# Altium footprint library LARS_409_LED.PCBLIB: 6 footprints
Each footprint in its own frame and in the unit in brackets; x right, y up, seen from the top. Pads: shape width x height; smd on the part's side, far side on the other; paste and mask are expansions set on the pad; w line width, h text height; cw(c..) or ccw(c..) is an arc to the next point about the centre after c.
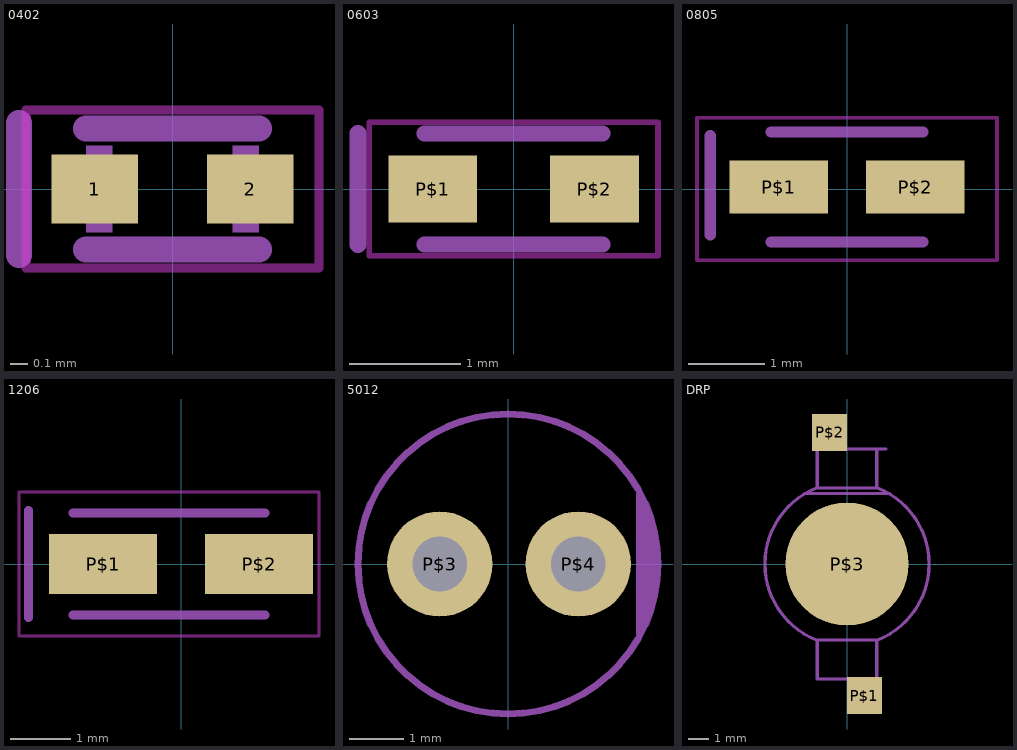
[diagram p0: the footprints below, top view; thin cyan lines are the x and y axes]

## 0402 [mm]
pads (2):
  rect 0.5x0.4 smd: 1(-0.45,0) 2(0.45,0)
Top keep-out:
  lines w0.051: -0.848,-0.458 0.848,-0.458 0.848,0.458 -0.848,0.458 -0.848,-0.458
tPlace:
  lines w0.152: -0.889,-0.381 -0.889,0.381 ; -0.5,-0.35 0.5,-0.35 ; -0.5,0.35 0.5,0.35
tGlue:
  region: -0.5,-0.25 -0.5,0.25 -0.35,0.25 -0.35,-0.25
  region: 0.35,-0.25 0.35,0.25 0.5,0.25 0.5,-0.25
3D body "User Library-led_0402.step": height 0.45, standoff 0, extent -0.505,-0.25 0.505,0.25

## 0603 [mil]
pads (2):
  rect 31.5x23.62 smd: P$1(-28.62,0) P$2(28.62,0)
Top keep-out:
  lines w1.97: -51.18,-23.62 51.18,-23.62 51.18,23.62 -51.18,23.62 -51.18,-23.62
tPlace:
  lines w5.71: -31.5,-19.69 31.5,-19.69 ; -31.5,19.69 31.5,19.69
  lines w6: -55.12,-19.69 -55.12,19.69
3D body "User Library-led_0603.step": height 23.62, standoff 0, extent -31.89,-15.75 31.89,15.75

## 0805 [mm]
pads (2):
  rect 1.3x0.7 smd: P$1(-0.9,0.025) P$2(0.9,0.025)
Top keep-out:
  lines w0.05: -1.975,-0.938 1.975,-0.938 1.975,0.938 -1.975,0.938 -1.975,-0.938
tPlace:
  lines w0.145: -1,-0.7 1,-0.7 ; -1,0.75 1,0.75
  lines w0.152: -1.8,-0.6 -1.8,0.7

## 1206 [mm]
pads (2):
  rect 1.8x1 smd: P$1(-1.3,0) P$2(1.3,0)
Top keep-out:
  lines w0.05: -2.7,-1.2 -2.7,1.2 2.3,1.2 2.3,-1.2 -2.7,-1.2
tPlace:
  lines w0.145: -1.8,-0.85 1.4,-0.85 ; -1.8,0.85 1.4,0.85
  lines w0.152: -2.54,-0.889 -2.54,0.889

## 5012 [mil]
pads (2):
  round 76 hole 39.37: P$3(-49.29,0) P$4(50.71,0)
tPlace:
  circle w5: c0,0 r108.27
  lines w5: 95,-50 95,40 ; 95,50 95,40 ; 100,-40 100,25 ; 105,-25 105,25 100,25 ; 95,40 100,40 100,25

## DRP [mm]
pads (3):
  rect 1.7x1.8 smd: P$1(0.85,-6.4) P$2(-0.85,6.4)
  rrect100% 6x6 smd: P$3(0,0)
tPlace:
  lines w0.152: -2.032,3.429 2.032,3.429 ; -1.45,3.7 -1.45,5.6 1.45,5.6 ; 1.45,3.7 1.45,5.6 ; 1.9,5.6 1.45,5.6 ; -1.45,-3.7 1.45,-3.7 ; -1.45,-3.7 -1.5,-3.7 cw(c0,0) -1.5,3.7 1.5,3.7 cw(c0,0) 1.5,-3.7 1.45,-3.7 ; -1.45,-3.7 -1.45,-5.6 1.45,-5.6 1.45,-3.7